# Altium footprint library rcl.PCBLIB: 487 footprints (part 31 of 31)
Each footprint in its own frame and in the unit in brackets; x right, y up, seen from the top. Pads: shape width x height; smd on the part's side, far side on the other; paste and mask are expansions set on the pad; w line width, h text height; cw(c..) or ccw(c..) is an arc to the next point about the centre after c.
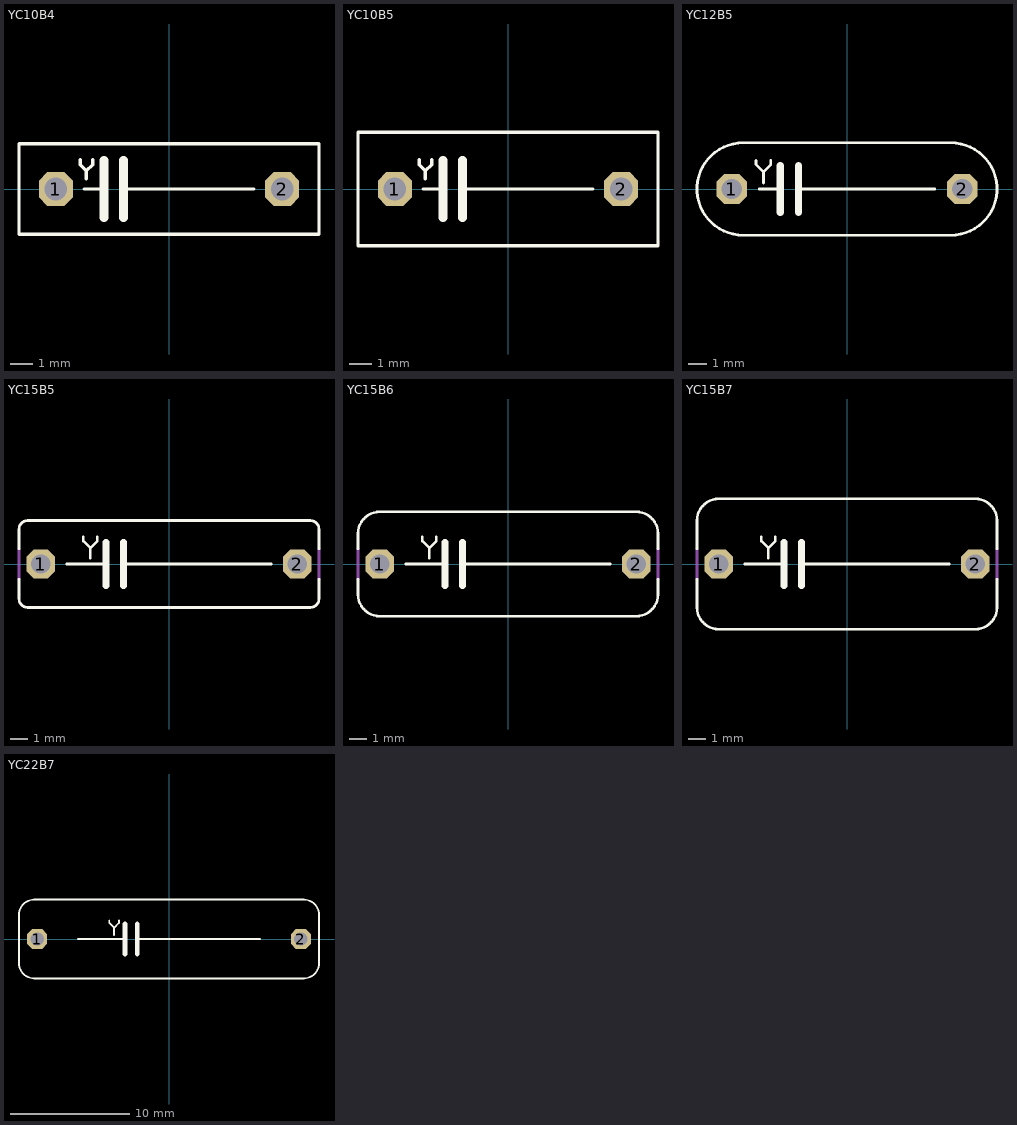
[diagram p30: the footprints below, top view; thin cyan lines are the x and y axes]

## YC10B4 [mil]
pads (2):
  oct 60x60 hole 40: 1(-200,0) 2(200,0)
Top Overlay:
  lines w6: -157,52 -157,43 -146,32 ; -150,0 -115,0 ; -146,18 -146,32 ; -135,52 -135,43 -146,32 ; -80,0 150,0 ; -265,-80 -265,80 265,80 265,-80 -265,-80
  lines w16: -115,-50 -115,0 -115,50 ; -80,-50 -80,0 -80,50

## YC10B5 [mil]
pads (2):
  oct 60x60 hole 40: 1(-200,0) 2(200,0)
Top Overlay:
  lines w6: -157,52 -157,43 -146,32 ; -150,0 -115,0 ; -146,18 -146,32 ; -135,52 -135,43 -146,32 ; -80,0 150,0 ; -265,-100 265,-100 265,100 -265,100 -265,-100
  lines w16: -115,-50 -115,0 -115,50 ; -80,-50 -80,0 -80,50

## YC12B5 [mil]
pads (2):
  oct 66x66 hole 44: 1(-250,0) 2(250,0)
Top Overlay:
  lines w6: -197,62 -197,53 -181,37 ; -190,0 -145,0 ; -181,13 -181,37 ; -165,62 -165,53 -181,37 ; -105,0 190,0 ; -225,-100 cw(c-225,0) -225,100 225,100 cw(c225,0) 225,-100 -225,-100
  lines w16: -145,-50 -145,0 -145,50 ; -105,-50 -105,0 -105,50

## YC15B5 [mil]
pads (2):
  oct 66x66 hole 44: 1(-295,0) 2(295,0)
Top Overlay:
  lines w6: -345,-35 -345,-80 ccw(c-325,-80) -325,-100 325,-100 ccw(c325,-80) 345,-80 345,-35 ; -345,35 -345,80 cw(c-325,80) -325,100 325,100 cw(c325,80) 345,80 345,35 ; -235,0 -145,0 ; -197,62 -197,53 -181,37 ; -181,13 -181,37 ; -165,62 -165,53 -181,37 ; -105,0 235,0
  lines w16: -145,-50 -145,0 -145,50 ; -105,-50 -105,0 -105,50
Mechanical 16:
  lines w6: -345,-35 -345,35 ; 345,-35 345,35

## YC15B6 [mil]
pads (2):
  oct 66x66 hole 44: 1(-295,0) 2(295,0)
Top Overlay:
  lines w6: -345,-35 -345,-70 ccw(c-295,-70) -295,-120 295,-120 ccw(c295,-70) 345,-70 345,-35 ; -345,35 -345,70 cw(c-295,70) -295,120 295,120 cw(c295,70) 345,70 345,35 ; -235,0 -145,0 ; -197,62 -197,53 -181,37 ; -181,13 -181,37 ; -165,62 -165,53 -181,37 ; -105,0 235,0
  lines w16: -145,-50 -145,0 -145,50 ; -105,-50 -105,0 -105,50
Mechanical 16:
  lines w6: -345,-35 -345,35 ; 345,-35 345,35

## YC15B7 [mil]
pads (2):
  oct 66x66 hole 44: 1(-295,0) 2(295,0)
Top Overlay:
  lines w6: -345,-35 -345,-100 ccw(c-295,-100) -295,-150 295,-150 ccw(c295,-100) 345,-100 345,-35 ; -345,35 -345,100 cw(c-295,100) -295,150 295,150 cw(c295,100) 345,100 345,35 ; -235,0 -145,0 ; -197,62 -197,53 -181,37 ; -181,13 -181,37 ; -165,62 -165,53 -181,37 ; -105,0 235,0
  lines w16: -145,-50 -145,0 -145,50 ; -105,-50 -105,0 -105,50
Mechanical 16:
  lines w6: -345,-35 -345,35 ; 345,-35 345,35

## YC22B7 [mil]
pads (2):
  oct 66x66 hole 44: 1(-435,0) 2(435,0)
Top Overlay:
  lines w6: -300,0 -145,0 ; -197,62 -197,53 -181,37 ; -181,13 -181,37 ; -165,62 -165,53 -181,37 ; -105,0 300,0 ; -495,-80 ccw(c-445,-80) -445,-130 445,-130 ccw(c445,-80) 495,-80 495,80 ccw(c445,80) 445,130 -445,130 ccw(c-445,80) -495,80 -495,-80
  lines w16: -145,-50 -145,0 -145,50 ; -105,-50 -105,0 -105,50